# Altium footprint library Miscellaneous Devices LC.PcbLib: 559 footprints (part 30 of 35)
Each footprint in its own frame and in the unit in brackets; x right, y up, seen from the top. Pads: shape width x height; smd on the part's side, far side on the other; paste and mask are expansions set on the pad; w line width, h text height; cw(c..) or ccw(c..) is an arc to the next point about the centre after c.
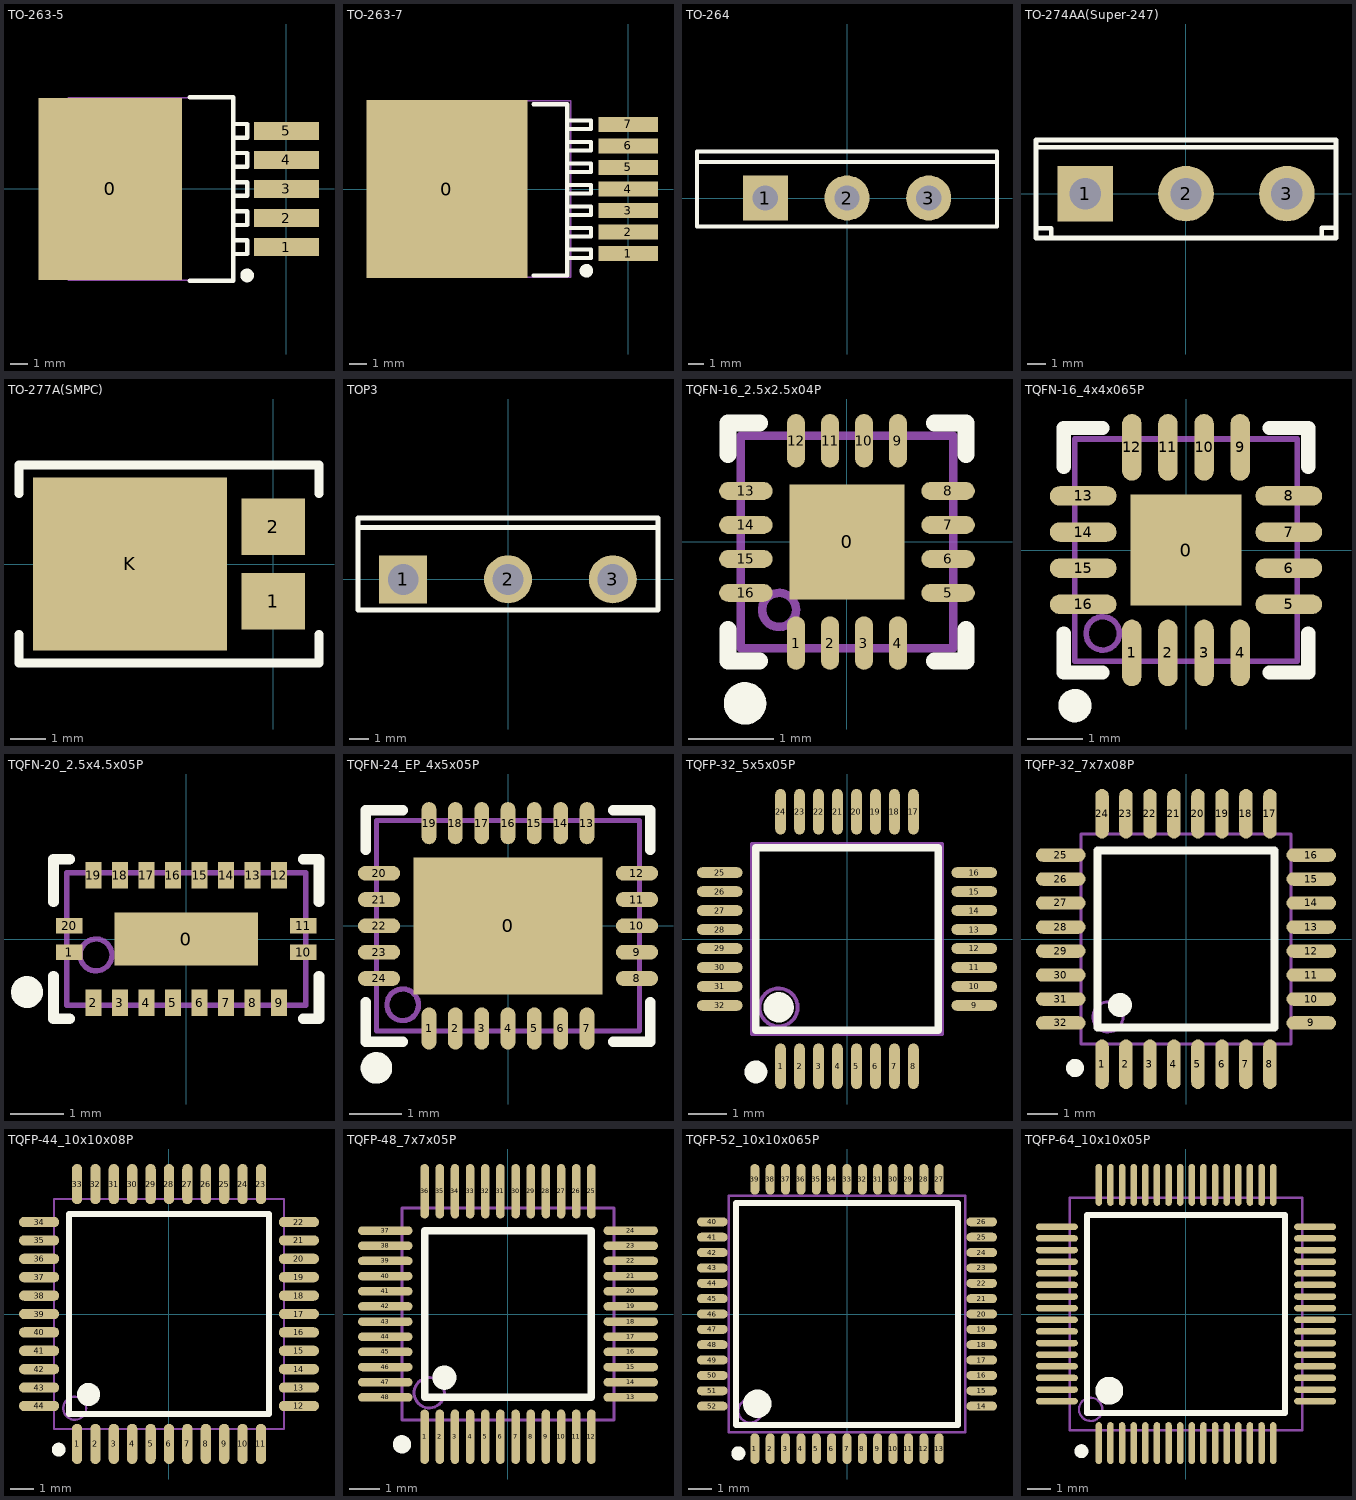
[diagram p29: the footprints below, top view; thin cyan lines are the x and y axes]

## TO-263-5 [mm]
pads (6):
  rect 8.4x10.65 smd: 0(-10.3,0)
  rect 3.8x1.05 smd: 1(0,-3.4) 2(0,-1.7) 3(0,0) 4(0,1.7) 5(0,3.4)
Top Overlay:
  circle w0.4: c-2.3,-5.05 r0.2
  lines w0.254: -5.65,-5.35 -3.1,-5.35 -3.1,5.35 -5.65,5.35 ; -3.1,-3 -2.3,-3 -2.3,-3.8 -3,-3.8 ; -3.1,-1.3 -2.3,-1.3 -2.3,-2.1 -3,-2.1 ; -3.1,0.4 -2.3,0.4 -2.3,-0.4 -3,-0.4 ; -3.1,2.1 -2.3,2.1 -2.3,1.3 -3,1.3 ; -3.1,3.8 -2.3,3.8 -2.3,3 -3,3
Mechanical 13:
  lines w0.1: -12.75,-5.325 -12.75,5.325 -3.1,5.325 -3.1,-5.325 -12.75,-5.325

## TO-263-7 [mm]
pads (8):
  rect 9.5x10.5 smd: 0(-10.7,0)
  rect 3.5x0.9 smd: 1(0,-3.81) 2(0,-2.54) 3(0,-1.27) 4(0,0) 5(0,1.27) 6(0,2.54) 7(0,3.81)
Top Overlay:
  circle w0.4: c-2.475,-4.825 r0.2
  lines w0.254: -5.6,-5.1 -3.6,-5.1 -3.6,5 -5.6,5 ; -3.6,-4.075 -2.2,-4.075 -2.2,-3.575 -3.6,-3.575 ; -3.6,-2.805 -2.2,-2.805 -2.2,-2.305 -3.6,-2.305 ; -3.6,-1.535 -2.2,-1.535 -2.2,-1.035 -3.6,-1.035 ; -3.6,-0.265 -2.2,-0.265 -2.2,0.235 -3.6,0.235 ; -3.6,1.005 -2.2,1.005 -2.2,1.505 -3.6,1.505 ; -3.6,2.275 -2.2,2.275 -2.2,2.775 -3.6,2.775 ; -3.6,3.545 -2.2,3.545 -2.2,4.045 -3.6,4.045
Mechanical 13:
  lines w0.1: -14.4,-5.2 -3.4,-5.2 -3.4,5.2 -14.4,5.2 -14.4,-5.2

## TO-264 [mm]
pads (3):
  rect 3x3 hole 1.7: 1(-5.45,0)
  round 3 hole 1.7: 2(0,0) 3(5.45,0)
Top Overlay:
  lines w0.254: -10,2.4 10,2.4 ; -10,-1.9 10,-1.9 10,3.1 -10,3.1 -10,-1.9

## TO-274AA(Super-247) [mm]
pads (3):
  rect 3x3 hole 1.7: 1(-5.45,0)
  round 3 hole 1.7: 2(0,0) 3(5.45,0)
Top Overlay:
  lines w0.254: -8.1,2.5 8.025,2.5 ; -8.05,-1.875 -7.275,-1.875 -7.275,-2.35 ; 7.325,-2.4 7.325,-1.85 8.1,-1.85 ; -8.1,-2.4 8.1,-2.4 8.1,2.9 -8.1,2.9 -8.1,-2.4

## TO-277A(SMPC) [mm]
pads (3):
  rect 1.8x1.6 smd: 1(0,-1.05) 2(0,1.05)
  rect 5.5x4.9 smd: K(-4.05,0)
Top Overlay:
  lines w0.254: -7.2,-2 -7.2,-2.8 1.3,-2.8 1.3,-2 ; -7.2,2 -7.2,2.8 1.3,2.8 1.3,2
3D body "TO-277A.STEP": height 1.2, standoff 0, extent -6.275,-2.375 0.375,2.375

## TOP3 [mm]
pads (3):
  rect 2.5x2.5 hole 1.6: 1(-5.45,0)
  round 2.5 hole 1.6: 2(0,0) 3(5.45,0)
Top Overlay:
  lines w0.254: -7.8,2.7 7.8,2.7 ; -7.8,-1.6 -7.8,3.2 7.8,3.2 7.8,-1.6 -7.8,-1.6

## TQFN-16_2.5x2.5x04P [mm] "QFN, 16-Leads, Body 3.00x3.00mm, Pitch 0.50mm, Thermal Pad 1.70x1.70mm, IPC Medium Density"
height 1
pads (17):
  rect 1.35x1.35 smd mask+0.051: 0(0,0)
  oval 0.21x0.63 smd mask+0.051: 1(-0.6,-1.19) 2(-0.2,-1.19) 3(0.2,-1.19) 4(0.6,-1.19) 9(0.6,1.19) 10(0.2,1.19) 11(-0.2,1.19) 12(-0.6,1.19)
  oval 0.63x0.21 smd mask+0.051: 5(1.19,-0.6) 6(1.19,-0.2) 7(1.19,0.2) 8(1.19,0.6) 13(-1.19,0.6) 14(-1.19,0.2) 15(-1.19,-0.2) 16(-1.19,-0.6)
Top Overlay:
  circle w0.25: c-1.2,-1.9 r0.125
  lines w0.2: -1.4,-1.03 -1.4,-1.4 -1.03,-1.4 ; -1.4,1.03 -1.4,1.4 -1.03,1.4 ; 1.03,-1.4 1.4,-1.4 1.4,-1.03 ; 1.03,1.4 1.4,1.4 1.4,1.03
Mechanical 13:
  circle w0.1: c-0.8,-0.8 r0.2
  lines w0.1: -1.25,-1.25 1.25,-1.25 1.25,1.25 -1.25,1.25 -1.25,-1.25

## TQFN-16_4x4x065P [mm] "QFN, 16-Leads, Body 3.00x3.00mm, Pitch 0.50mm, Thermal Pad 1.70x1.70mm, IPC Medium Density"
height 1
pads (17):
  rect 2x2 smd mask+0.051: 0(0,0)
  oval 0.35x1.2 smd mask+0.051: 1(-0.975,-1.85) 2(-0.325,-1.85) 3(0.325,-1.85) 4(0.975,-1.85) 9(0.975,1.85) 10(0.325,1.85) 11(-0.325,1.85) 12(-0.975,1.85)
  oval 1.2x0.35 smd mask+0.051: 5(1.85,-0.975) 6(1.85,-0.325) 7(1.85,0.325) 8(1.85,0.975) 13(-1.85,0.975) 14(-1.85,0.325) 15(-1.85,-0.325) 16(-1.85,-0.975)
Top Overlay:
  circle w0.3: c-2,-2.8 r0.15
  lines w0.254: -2.2,-1.5 -2.2,-2.2 -1.5,-2.2 ; -2.2,1.5 -2.2,2.2 -1.5,2.2 ; 1.5,-2.2 2.2,-2.2 2.2,-1.5 ; 1.5,2.2 2.2,2.2 2.2,1.5
Mechanical 13:
  circle w0.1: c-1.5,-1.5 r0.3
  lines w0.1: -2,-2 -2,2 2,2 2,-2 -2,-2

## TQFN-20_2.5x4.5x05P [mm]
pads (21):
  rect 2.7x1 smd mask+0.051: 0(0,0)
  rect 0.5x0.3 smd mask+0.051: 1(-2.2,-0.25) 10(2.2,-0.25) 11(2.2,0.25) 20(-2.2,0.25)
  rect 0.3x0.5 smd mask+0.051: 2(-1.75,-1.2) 3(-1.25,-1.2) 4(-0.75,-1.2) 5(-0.25,-1.2) 6(0.25,-1.2) 7(0.75,-1.2) 8(1.25,-1.2) 9(1.75,-1.2) 12(1.75,1.2) 13(1.25,1.2) 14(0.75,1.2) 15(0.25,1.2) 16(-0.25,1.2) 17(-0.75,1.2) 18(-1.25,1.2) 19(-1.75,1.2)
Top Overlay:
  circle w0.3: c-3,-1 r0.15
  lines w0.2: -2.5,-0.7 -2.5,-1.5 -2.2,-1.5 ; -2.5,0.7 -2.5,1.5 -2.2,1.5 ; 2.2,-1.5 2.5,-1.5 2.5,-0.7 ; 2.2,1.5 2.5,1.5 2.5,0.7
Mechanical 13:
  circle w0.1: c-1.7,-0.3 r0.3
  lines w0.1: -2.25,-1.25 2.25,-1.25 2.25,1.25 -2.25,1.25 -2.25,-1.25

## TQFN-24_EP_4x5x05P [mm]
pads (25):
  rect 3.6x2.6 smd mask+0.051: 0(0,0)
  oval 0.28x0.8 smd mask+0.051: 1(-1.5,-1.95) 2(-1,-1.95) 3(-0.5,-1.95) 4(0,-1.95) 5(0.5,-1.95) 6(1,-1.95) 7(1.5,-1.95) 13(1.5,1.95) 14(1,1.95) 15(0.5,1.95) 16(0,1.95) 17(-0.5,1.95) 18(-1,1.95) 19(-1.5,1.95)
  oval 0.8x0.28 smd mask+0.051: 8(2.45,-1) 9(2.45,-0.5) 10(2.45,0) 11(2.45,0.5) 12(2.45,1) 20(-2.45,1) 21(-2.45,0.5) 22(-2.45,0) 23(-2.45,-0.5) 24(-2.45,-1)
Top Overlay:
  circle w0.3: c-2.5,-2.7 r0.15
  lines w0.2: -2.7,-1.45 -2.7,-2.2 -2,-2.2 ; -2.7,1.45 -2.7,2.2 -2,2.2 ; 2,-2.2 2.7,-2.2 2.7,-1.45 ; 2,2.2 2.7,2.2 2.7,1.45
Mechanical 13:
  circle w0.1: c-2,-1.5 r0.3
  lines w0.1: -2.5,-2 -2.5,2 2.5,2 2.5,-2 -2.5,-2

## TQFP-32_5x5x05P [mm]
pads (32):
  oval 0.28x1.2 smd mask+0.051: 1(-1.75,-3.35) 2(-1.25,-3.35) 3(-0.75,-3.35) 4(-0.25,-3.35) 5(0.25,-3.35) 6(0.75,-3.35) 7(1.25,-3.35) 8(1.75,-3.35) 17(1.75,3.35) 18(1.25,3.35) 19(0.75,3.35) 20(0.25,3.35) 21(-0.25,3.35) 22(-0.75,3.35) 23(-1.25,3.35) 24(-1.75,3.35)
  oval 1.2x0.28 smd mask+0.051: 9(3.35,-1.75) 10(3.35,-1.25) 11(3.35,-0.75) 12(3.35,-0.25) 13(3.35,0.25) 14(3.35,0.75) 15(3.35,1.25) 16(3.35,1.75) 25(-3.35,1.75) 26(-3.35,1.25) 27(-3.35,0.75) 28(-3.35,0.25) 29(-3.35,-0.25) 30(-3.35,-0.75) 31(-3.35,-1.25) 32(-3.35,-1.75)
Top Overlay:
  circle w0.4: c-1.8,-1.8 r0.2
  circle w0.3: c-2.4,-3.5 r0.15
  lines w0.2: -2.4,-2.4 2.4,-2.4 2.4,2.4 -2.4,2.4 -2.4,-2.4
Mechanical 13:
  circle w0.1: c-1.8,-1.8 r0.5
  lines w0.1: -2.5,-2.5 2.5,-2.5 2.5,2.5 -2.5,2.5 -2.5,-2.5

## TQFP-32_7x7x08P [mm]
pads (32):
  oval 0.45x1.65 smd: 1(-2.8,-4.175) 2(-2,-4.175) 3(-1.2,-4.175) 4(-0.4,-4.175) 5(0.4,-4.175) 6(1.2,-4.175) 7(2,-4.175) 8(2.8,-4.175) 17(2.8,4.175) 18(2,4.175) 19(1.2,4.175) 20(0.4,4.175) 21(-0.4,4.175) 22(-1.2,4.175) 23(-2,4.175) 24(-2.8,4.175)
  oval 1.65x0.45 smd: 9(4.175,-2.8) 10(4.175,-2) 11(4.175,-1.2) 12(4.175,-0.4) 13(4.175,0.4) 14(4.175,1.2) 15(4.175,2) 16(4.175,2.8) 25(-4.175,2.8) 26(-4.175,2) 27(-4.175,1.2) 28(-4.175,0.4) 29(-4.175,-0.4) 30(-4.175,-1.2) 31(-4.175,-2) 32(-4.175,-2.8)
Top Overlay:
  circle w0.4: c-2.2,-2.2 r0.2
  circle w0.3: c-3.7,-4.3 r0.15
  lines w0.254: -2.95,-2.95 2.95,-2.95 2.95,2.95 -2.95,2.95 -2.95,-2.95
Mechanical 13:
  circle w0.1: c-2.6,-2.6 r0.5
  lines w0.1: -3.5,-3.5 3.5,-3.5 3.5,3.5 -3.5,3.5 -3.5,-3.5
3D body "TQFP-9X9-32.STEP": height 1.6, standoff -0.05, extent -4.5,-4.5 4.5,4.5

## TQFP-44_10x10x08P [mm]
pads (44):
  oval 0.45x1.75 smd: 1(-4,-5.65) 2(-3.2,-5.65) 3(-2.4,-5.65) 4(-1.6,-5.65) 5(-0.8,-5.65) 6(0,-5.65) 7(0.8,-5.65) 8(1.6,-5.65) 9(2.4,-5.65) 10(3.2,-5.65) 11(4,-5.65) 23(4,5.65) 24(3.2,5.65) 25(2.4,5.65) 26(1.6,5.65) 27(0.8,5.65) 28(0,5.65) 29(-0.8,5.65) 30(-1.6,5.65) 31(-2.4,5.65) 32(-3.2,5.65) 33(-4,5.65)
  oval 1.75x0.45 smd: 12(5.65,-4) 13(5.65,-3.2) 14(5.65,-2.4) 15(5.65,-1.6) 16(5.65,-0.8) 17(5.65,0) 18(5.65,0.8) 19(5.65,1.6) 20(5.65,2.4) 21(5.65,3.2) 22(5.65,4) 34(-5.65,4) 35(-5.65,3.2) 36(-5.65,2.4) 37(-5.65,1.6) 38(-5.65,0.8) 39(-5.65,0) 40(-5.65,-0.8) 41(-5.65,-1.6) 42(-5.65,-2.4) 43(-5.65,-3.2) 44(-5.65,-4)
Top Overlay:
  circle w0.5: c-3.5,-3.5 r0.25
  circle w0.3: c-4.8,-5.9 r0.15
  lines w0.254: -4.35,-4.35 -4.35,4.35 4.35,4.35 4.35,-4.35 -4.35,-4.35
Mechanical 13:
  circle w0.1: c-4.1,-4.1 r0.5
  lines w0.1: -5,-5 -5,5 5,5 5,-5 -5,-5

## TQFP-48_7x7x05P [mm]
pads (48):
  oval 0.28x1.8 smd mask+0.051: 1(-2.75,-4.05) 2(-2.25,-4.05) 3(-1.75,-4.05) 4(-1.25,-4.05) 5(-0.75,-4.05) 6(-0.25,-4.05) 7(0.25,-4.05) 8(0.75,-4.05) 9(1.25,-4.05) 10(1.75,-4.05) 11(2.25,-4.05) 12(2.75,-4.05) 25(2.75,4.05) 26(2.25,4.05) 27(1.75,4.05) 28(1.25,4.05) 29(0.75,4.05) 30(0.25,4.05) 31(-0.25,4.05) 32(-0.75,4.05) 33(-1.25,4.05) 34(-1.75,4.05) 35(-2.25,4.05) 36(-2.75,4.05)
  oval 1.8x0.28 smd mask+0.051: 13(4.05,-2.75) 14(4.05,-2.25) 15(4.05,-1.75) 16(4.05,-1.25) 17(4.05,-0.75) 18(4.05,-0.25) 19(4.05,0.25) 20(4.05,0.75) 21(4.05,1.25) 22(4.05,1.75) 23(4.05,2.25) 24(4.05,2.75) 37(-4.05,2.75) 38(-4.05,2.25) 39(-4.05,1.75) 40(-4.05,1.25) 41(-4.05,0.75) 42(-4.05,0.25) 43(-4.05,-0.25) 44(-4.05,-0.75) 45(-4.05,-1.25) 46(-4.05,-1.75) 47(-4.05,-2.25) 48(-4.05,-2.75)
Top Overlay:
  circle w0.3: c-3.5,-4.3 r0.15
  circle w0.4: c-2.1,-2.1 r0.2
  lines w0.254: -2.75,-2.75 2.75,-2.75 2.75,2.75 -2.75,2.75 -2.75,-2.75
Mechanical 13:
  circle w0.1: c-2.6,-2.6 r0.5
  lines w0.1: -3.5,-3.5 3.5,-3.5 3.5,3.5 -3.5,3.5 -3.5,-3.5
3D body "QFP48P50_900X900X160L60X19.STEP": height 1.6, standoff 0, extent -4.5,-4.5 4.5,4.5

## TQFP-52_10x10x065P [mm]
pads (52):
  oval 0.38x1.3 smd mask+0.051: 1(-3.9,-5.7) 2(-3.25,-5.7) 3(-2.6,-5.7) 4(-1.95,-5.7) 5(-1.3,-5.7) 6(-0.65,-5.7) 7(0,-5.7) 8(0.65,-5.7) 9(1.3,-5.7) 10(1.95,-5.7) 11(2.6,-5.7) 12(3.25,-5.7) 13(3.9,-5.7) 27(3.9,5.7) 28(3.25,5.7) 29(2.6,5.7) 30(1.95,5.7) 31(1.3,5.7) 32(0.65,5.7) 33(0,5.7) 34(-0.65,5.7) 35(-1.3,5.7) 36(-1.95,5.7) 37(-2.6,5.7) 38(-3.25,5.7) 39(-3.9,5.7)
  oval 1.3x0.38 smd mask+0.051: 14(5.7,-3.9) 15(5.7,-3.25) 16(5.7,-2.6) 17(5.7,-1.95) 18(5.7,-1.3) 19(5.7,-0.65) 20(5.7,0) 21(5.7,0.65) 22(5.7,1.3) 23(5.7,1.95) 24(5.7,2.6) 25(5.7,3.25) 26(5.7,3.9) 40(-5.7,3.9) 41(-5.7,3.25) 42(-5.7,2.6) 43(-5.7,1.95) 44(-5.7,1.3) 45(-5.7,0.65) 46(-5.7,0) 47(-5.7,-0.65) 48(-5.7,-1.3) 49(-5.7,-1.95) 50(-5.7,-2.6) 51(-5.7,-3.25) 52(-5.7,-3.9)
Top Overlay:
  circle w0.6: c-3.8,-3.8 r0.3
  circle w0.3: c-4.6,-5.9 r0.15
  lines w0.254: -4.7,-4.7 4.7,-4.7 4.7,4.7 -4.7,4.7 -4.7,-4.7
Mechanical 13:
  circle w0.1: c-4.1,-4.1 r0.5
  lines w0.1: -5,-5 5,-5 5,5 -5,5 -5,-5

## TQFP-64_10x10x05P [mm]
pads (64):
  oval 0.28x1.8 smd mask+0.051: 1(-3.75,-5.55) 2(-3.25,-5.55) 3(-2.75,-5.55) 4(-2.25,-5.55) 5(-1.75,-5.55) 6(-1.25,-5.55) 7(-0.75,-5.55) 8(-0.25,-5.55) 9(0.25,-5.55) 10(0.75,-5.55) 11(1.25,-5.55) 12(1.75,-5.55) 13(2.25,-5.55) 14(2.75,-5.55) 15(3.25,-5.55) 16(3.75,-5.55) 33(3.75,5.55) 34(3.25,5.55) 35(2.75,5.55) 36(2.25,5.55) 37(1.75,5.55) 38(1.25,5.55) 39(0.75,5.55) 40(0.25,5.55) 41(-0.25,5.55) 42(-0.75,5.55) 43(-1.25,5.55) 44(-1.75,5.55) 45(-2.25,5.55) 46(-2.75,5.55) 47(-3.25,5.55) 48(-3.75,5.55)
  oval 1.8x0.28 smd mask+0.051: 17(5.55,-3.75) 18(5.55,-3.25) 19(5.55,-2.75) 20(5.55,-2.25) 21(5.55,-1.75) 22(5.55,-1.25) 23(5.55,-0.75) 24(5.55,-0.25) 25(5.55,0.25) 26(5.55,0.75) 27(5.55,1.25) 28(5.55,1.75) 29(5.55,2.25) 30(5.55,2.75) 31(5.55,3.25) 32(5.55,3.75) 49(-5.55,3.75) 50(-5.55,3.25) 51(-5.55,2.75) 52(-5.55,2.25) 53(-5.55,1.75) 54(-5.55,1.25) 55(-5.55,0.75) 56(-5.55,0.25) 57(-5.55,-0.25) 58(-5.55,-0.75) 59(-5.55,-1.25) 60(-5.55,-1.75) 61(-5.55,-2.25) 62(-5.55,-2.75) 63(-5.55,-3.25) 64(-5.55,-3.75)
Top Overlay:
  circle w0.3: c-4.5,-5.9 r0.15
  circle w0.6: c-3.3,-3.3 r0.3
  lines w0.254: -4.25,-4.25 -4.25,4.25 4.25,4.25 4.25,-4.25 -4.25,-4.25
Mechanical 13:
  circle w0.1: c-4.1,-4.1 r0.5
  lines w0.1: -5,-5 -5,5 5,5 5,-5 -5,-5
3D body "TQFP-64.STEP": height 1.1, standoff 0, extent -6.017,-6.009 6,6.009